# EAGLE library part L01-10VA (library trafo-alfamag)
TOROID TRANSFORMER
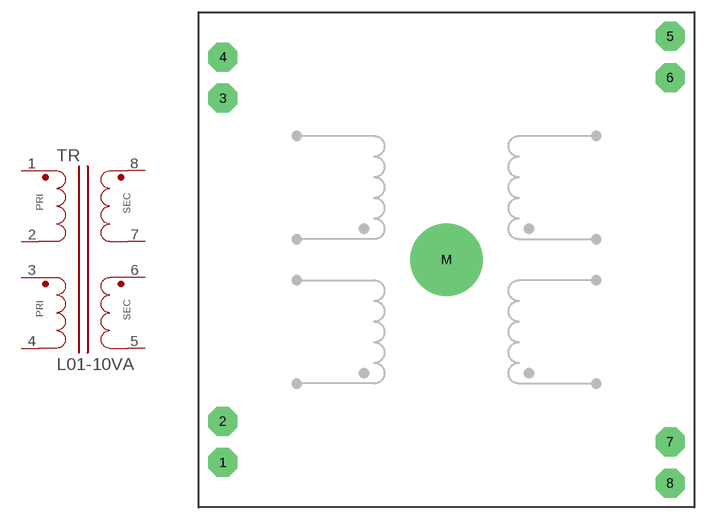
[diagram p4: symbol with the pads of L01-10VA; footprint L01-10VA]

Designator prefix TR

## L01-10VA  [L01-10VA]
1  1  pas
2  2  pas
3  3  pas
4  4  pas
5  5  pas
6  6  pas
7  7  pas
8  8  pas

## Footprint L01-10VA (pad centres in mm)
TOROID TRANSFORMER L x W x H = 55.0 x 55.0 x 26.0 mm X x Y = 50.80 x 50.80 mm
drill 1.422 pad 3.556 octagon: 1 -27.5,-24.96; 2 -27.5,-19.88; 3 -27.5,19.88; 4 -27.5,24.96; 5 27.5,27.5; 6 27.5,22.42; 7 27.5,-22.42; 8 27.5,-27.5
drill 4.699 pad 8.89: M 0,0